# EAGLE library part BQ2057W (library template)
Advanced Linear Charge Management IC For Single-AND TWO-CELL Lithium-Ion And Lithium-Polymer
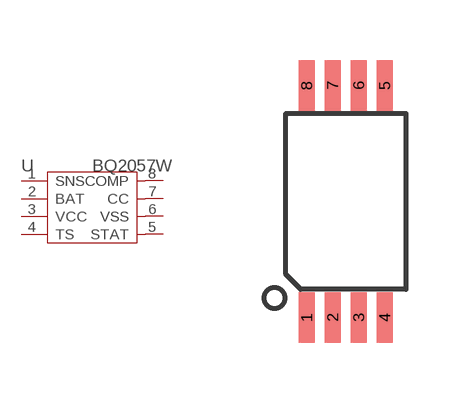
[diagram p4: symbol with the pads of TSSOP8; footprint TSSOP8]

Designator prefix U

## BQ2057WPW  [TSSOP8]
1  SNS  in
2  BAT  in
3  VCC  in
4  TS  in
5  STAT  out
6  VSS  sup
7  CC  out
8  COMP  in

## Footprint TSSOP8 (pad centres in mm)
smd 0.4 x 1.27: 1 -0.975,-2.9; 2 -0.325,-2.9; 3 0.325,-2.9; 4 0.975,-2.9; 5 0.975,2.9; 6 0.325,2.9; 7 -0.325,2.9; 8 -0.975,2.9